# Altium integrated library MergenElektronik_Oscillators_Crystals.IntLib: 4 symbols
Pins are listed as number, name and electrical type; pins without a type are passive.

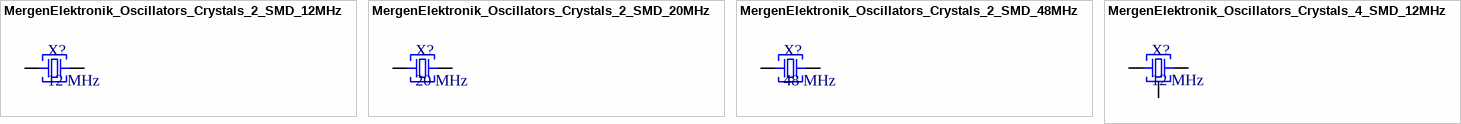
[diagram p0: symbols MergenElektronik_Oscillators_Crystals_2_SMD_12MHz to MergenElektronik_Oscillators_Crystals_4_SMD_12MHz]

## MergenElektronik_Oscillators_Crystals_2_SMD_12MHz
designator X?, comment 12 MHz
Mergen Elektronik - Oscilators - Crystals - 2-SMD - 12 MHz; Manufacturer: CTS-Frequency Controls; Manufacturer Number: 445I23D12M00000; Model: Crystal Oscilator; Load Capacitance: 18 pF; Digi-Key Number: CTX1170CT-ND; Mounting Type: Surface Mount; Frequency: 12 MHz; Package: 2-SMD; Temperature: -40°C up to 85°C; Value: 12 MHz; Supplier 1: Digi-Key; Supplier Part Number 1: CTX1170CT-ND
footprint MergenElektronik_Oscillators_Crystals_2-SMD (2-SMD)
pins: 1, 2

## MergenElektronik_Oscillators_Crystals_2_SMD_20MHz
designator X?, comment 20 MHz
Mergen Elektronik - Oscilators - Crystals - 2-SMD - 20 MHz; Manufacturer: ECS Inc.; Manufacturer Number: ECS-200-18-30-JGN-TR; Model: Crystal Oscilator; Load Capacitance: 18 pF; Digi-Key Number: XC3134TR-ND; Mounting Type: Surface Mount; Frequency: 20 MHz; Package: 2-SMD; Temperature: -40°C up to 85°C; Value: 20 MHz; Mouser Number: 520-200-18-30-JGNT; Farnell Number: 4059266RL; Supplier 1: Mouser; Supplier 2: Digikey; Supplier Part Number 1: 520-200-18-30-JGNT; Supplier Part Number 2: XC3134TR-ND
footprint MergenElektronik_Oscillators_Crystals_2-SMD (2-SMD)
pins: 1, 2

## MergenElektronik_Oscillators_Crystals_2_SMD_48MHz
designator X?, comment 48 MHz
Mergen Elektronik - Oscilators - Crystals - 2-SMD - 48 MHz; Manufacturer: NDK America, Inc.; Manufacturer Number: LNCD1-48M; Model: Crystal Oscilator; Value: 12 MHz; Load Capacitance: 8 pF; Digi-Key Number: 644-LNCD1-48MTR-ND; Mounting Type: Surface Mount; Frequency: 48 MHz; Package: 2-SMD; Temperature: -40°C up to 85°C; Supplier 1: Digi-Key; Supplier Part Number 1: 644-LNCD1-48MTR-ND
footprint MergenElektronik_Oscillators_Crystals_2-SMD (2-SMD)
pins: 1, 2

## MergenElektronik_Oscillators_Crystals_4_SMD_12MHz
designator X?, comment 12 MHz
Mergen Elektronik - Oscilators - Crystals - 4-SMD - 12 MHz; Manufacturer: Raltron Electronics; Manufacturer Number: RH100-12.000-18-2030-TR; Model: Crystal Oscilator; Load Capacitance: 18 pF; Digi-Key Number: 2151-RH100-12.000-18-2030-TRCT-ND; Mounting Type: Surface Mount; Frequency: 12 MHz; Package: 4-SMD; Temperature: -20°C up to 70°C; Value: 12 MHz; Supplier 1: Digi-Key; Supplier Part Number 1: 2151-RH100-12.000-18-2030-TRCT-ND
footprint MergenElektronik_Oscillators_Crystals_4-SMD (4-SMD)
pins: 1, 2, 3